# Altium footprint library alexsb.PCBLIB: 444 footprints (part 18 of 28)
Each footprint in its own frame and in the unit in brackets; x right, y up, seen from the top. Pads: shape width x height; smd on the part's side, far side on the other; paste and mask are expansions set on the pad; w line width, h text height; cw(c..) or ccw(c..) is an arc to the next point about the centre after c.
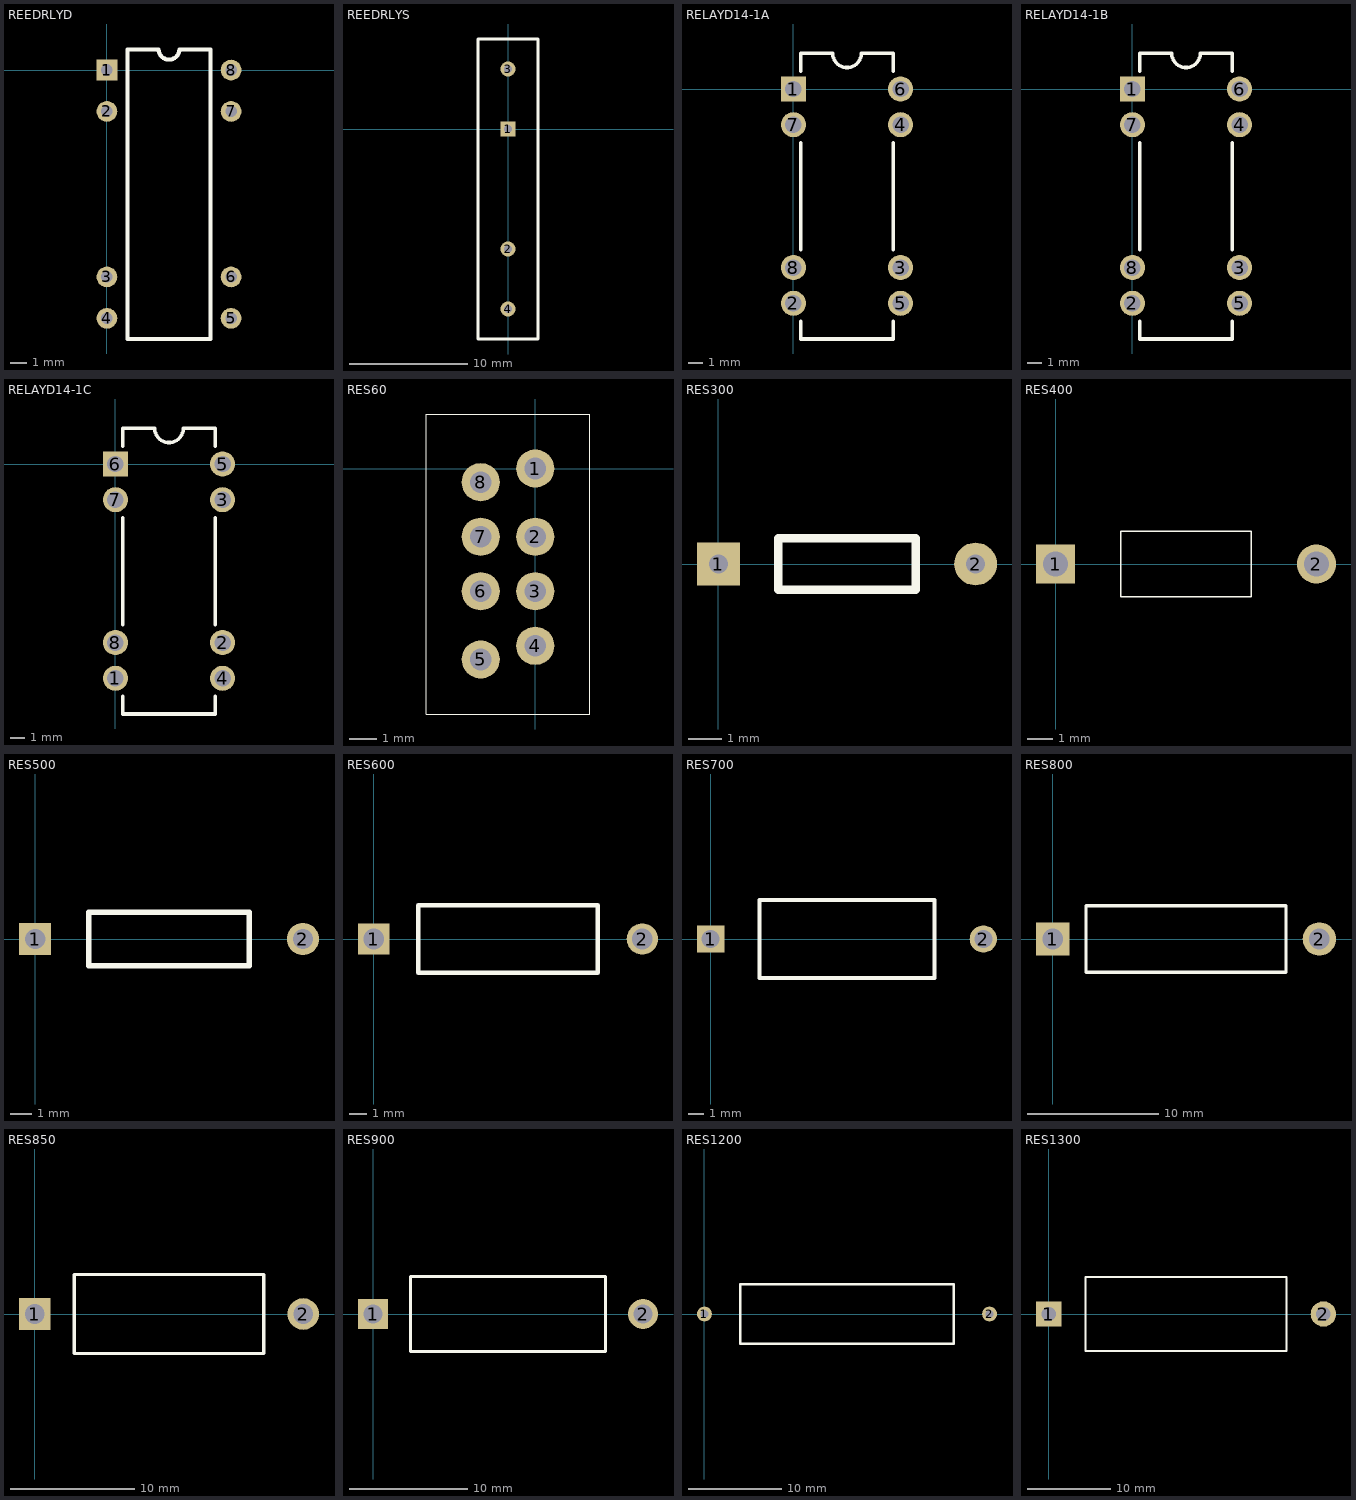
[diagram p17: the footprints below, top view; thin cyan lines are the x and y axes]

## REEDRLYD [mil]
pads (8):
  rect 50x50 hole 28: 1(0,0)
  round 50 hole 28: 2(0,-100) 3(0,-500) 4(0,-600) 5(300,-600) 6(300,-500) 7(300,-100) 8(300,0)
Top Overlay:
  lines w10: 50,-650 250,-650 250,50 175,50 cw(c150,50) 125,50 50,50 50,-650

## REEDRLYS [mil]
pads (4):
  rect 50x50 hole 28: 1(0,0)
  round 50 hole 28: 2(0,-400) 3(0,200) 4(0,-600)
Top Overlay:
  lines w10: -100,-700 100,-700 100,300 -100,300 -100,-700

## RELAYD14-1A [mil]
pads (8):
  rect 70x70 hole 46: 1(0,0)
  round 70 hole 46: 2(0,-600) 3(300,-500) 4(300,-100) 5(300,-600) 6(300,0) 7(0,-100) 8(0,-500)
Top Overlay:
  lines w10: 20,-650 20,-700 280,-700 280,-650 ; 20,-450 20,-150 ; 20,50 20,100 110,100 ccw(c150,100) 190,100 280,100 280,50 ; 280,-450 280,-150

## RELAYD14-1B [mil]
pads (8):
  rect 70x70 hole 46: 1(0,0)
  round 70 hole 46: 2(0,-600) 3(300,-500) 4(300,-100) 5(300,-600) 6(300,0) 7(0,-100) 8(0,-500)
Top Overlay:
  lines w10: 20,-650 20,-700 280,-700 280,-650 ; 20,-450 20,-150 ; 20,50 20,100 110,100 ccw(c150,100) 190,100 280,100 280,50 ; 280,-450 280,-150

## RELAYD14-1C [mil]
pads (8):
  round 70 hole 46: 1(0,-600) 2(300,-500) 3(300,-100) 4(300,-600) 5(300,0) 7(0,-100) 8(0,-500)
  rect 70x70 hole 46: 6(0,0)
Top Overlay:
  lines w10: 20,-650 20,-700 280,-700 280,-650 ; 20,-450 20,-150 ; 20,50 20,100 110,100 ccw(c150,100) 190,100 280,100 280,50 ; 280,-450 280,-150

## RES60 [mm]
pads (8):
  round 1.4 hole 0.8: 1(0,0) 2(0,-2.5) 3(0,-4.5) 4(0,-6.5) 5(-2,-7) 6(-2,-4.5) 7(-2,-2.5) 8(-2,-0.5)
Top Overlay:
  lines w0.025: -4,-9 -4,2 2,2 2,-9 -4,-9

## RES300 [mil]
pads (2):
  rect 50x50 hole 22: 1(0,0)
  round 50 hole 22: 2(300,0)
Top Overlay:
  lines w10: 70,-30 70,30 230,30 230,-30 70,-30

## RES400 [mil]
pads (2):
  rect 60x60 hole 38: 1(0,0)
  round 60 hole 38: 2(400,0)
Top Overlay:
  lines w1.97: 100,-50 100,50 300,50 300,-50 100,-50

## RES500 [mil]
pads (2):
  rect 60x60 hole 38: 1(0,0)
  round 60 hole 38: 2(500,0)
Top Overlay:
  lines w10: 100,-50 100,50 400,50 400,-50 100,-50

## RES600 [mil]
pads (2):
  rect 70x70 hole 46: 1(0,0)
  round 70 hole 46: 2(600,0)
Top Overlay:
  lines w10: 100,-75 100,75 500,75 500,-75 100,-75

## RES700 [mil]
pads (2):
  rect 70x70 hole 46: 1(0,0)
  round 70 hole 46: 2(700,0)
Top Overlay:
  lines w10: 125,-100 125,100 575,100 575,-100 125,-100

## RES800 [mil]
pads (2):
  rect 100x100 hole 62: 1(0,0)
  round 100 hole 62: 2(800,0)
Top Overlay:
  lines w10: 100,-100 100,100 700,100 700,-100 100,-100

## RES850 [mil]
pads (2):
  rect 100x100 hole 62: 1(0,0)
  round 100 hole 62: 2(850,0)
Top Overlay:
  lines w10: 125,-125 125,125 725,125 725,-125 125,-125

## RES900 [mil]
pads (2):
  rect 100x100 hole 62: 1(0,0)
  round 100 hole 62: 2(900,0)
Top Overlay:
  lines w10: 125,-125 125,125 775,125 775,-125 125,-125

## RES1200 [mm]
pads (2):
  round 1.6 hole 0.9: 1(0,0) 2(30.48,0)
Top Overlay:
  lines w0.254: 3.81,-3.175 3.81,3.175 26.67,3.175 26.67,-3.175 3.81,-3.175

## RES1300 [mil]
pads (2):
  rect 120x120 hole 68: 1(0,0)
  round 120 hole 68: 2(1300,0)
Top Overlay:
  lines w10: 175,-175 175,175 1125,175 1125,-175 175,-175